# Altium footprint library V__7.PcbLib: 4 footprints
Each footprint in its own frame and in the unit in brackets; x right, y up, seen from the top. Pads: shape width x height; smd on the part's side, far side on the other; paste and mask are expansions set on the pad; w line width, h text height; cw(c..) or ccw(c..) is an arc to the next point about the centre after c.
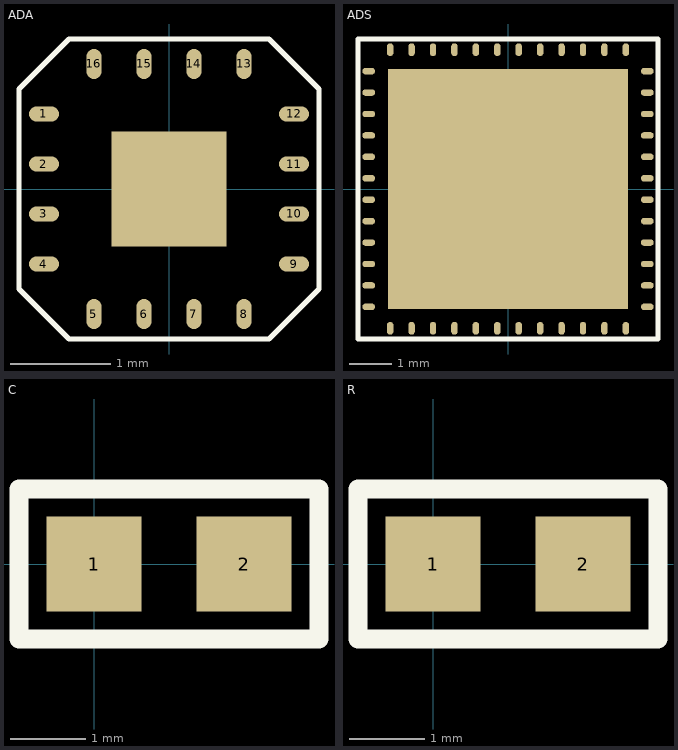
[diagram p0: the footprints below, top view; thin cyan lines are the x and y axes]

## ADA [mm]
pads (17):
  oval 0.3x0.15 smd: 1(-1.25,0.75) 2(-1.25,0.25) 3(-1.25,-0.25) 4(-1.25,-0.75) 9(1.25,-0.75) 10(1.25,-0.25) 11(1.25,0.25) 12(1.25,0.75)
  oval 0.15x0.3 smd: 5(-0.75,-1.25) 6(-0.25,-1.25) 7(0.25,-1.25) 8(0.75,-1.25) 13(0.75,1.25) 14(0.25,1.25) 15(-0.25,1.25) 16(-0.75,1.25)
  rect 1.15x1.15 smd: ""(0,0)
Top Overlay:
  lines w0.05: -1.5,-1 -1.5,1 -1,1.5 1,1.5 1.5,1 1.5,-1 1,-1.5 -1,-1.5 -1.5,-1

## ADS [mm]
pads (49):
  oval 0.3x0.15 smd: 1(-3.25,2.75) 2(-3.25,2.25) 3(-3.25,1.75) 4(-3.25,1.25) 5(-3.25,0.75) 6(-3.25,0.25) 7(-3.25,-0.25) 8(-3.25,-0.75) 9(-3.25,-1.25) 10(-3.25,-1.75) 11(-3.25,-2.25) 12(-3.25,-2.75) 25(3.25,-2.75) 26(3.25,-2.25) 27(3.25,-1.75) 28(3.25,-1.25) 29(3.25,-0.75) 30(3.25,-0.25) 31(3.25,0.25) 32(3.25,0.75) 33(3.25,1.25) 34(3.25,1.75) 35(3.25,2.25) 36(3.25,2.75)
  oval 0.15x0.3 smd: 13(-2.75,-3.25) 14(-2.25,-3.25) 15(-1.75,-3.25) 16(-1.25,-3.25) 17(-0.75,-3.25) 18(-0.25,-3.25) 19(0.25,-3.25) 20(0.75,-3.25) 21(1.25,-3.25) 22(1.75,-3.25) 23(2.25,-3.25) 24(2.75,-3.25) 37(2.75,3.25) 38(2.25,3.25) 39(1.75,3.25) 40(1.25,3.25) 41(0.75,3.25) 42(0.25,3.25) 43(-0.25,3.25) 44(-0.75,3.25) 45(-1.25,3.25) 46(-1.75,3.25) 47(-2.25,3.25) 48(-2.75,3.25)
  rect 5.6x5.6 smd: ""(0,0)
Top Overlay:
  lines w0.125: -3.5,-3.5 -3.5,3.5 3.5,3.5 3.5,-3.5 -3.5,-3.5

## C [mm]
pads (2):
  rect 1.27x1.27 smd: 1(0,0) 2(2,0)
Top Overlay:
  lines w0.254: -1,-1 3,-1 3,1 -1,1 -1,-1

## R [mm]
pads (2):
  rect 1.27x1.27 smd: 1(0,0) 2(2,0)
Top Overlay:
  lines w0.254: -1,-1 -1,1 3,1 3,-1 -1,-1